# Altium footprint library 2020-04-06_20-05-45.PcbLib: 1 footprints
Each footprint in its own frame and in the unit in brackets; x right, y up, seen from the top. Pads: shape width x height; smd on the part's side, far side on the other; paste and mask are expansions set on the pad; w line width, h text height; cw(c..) or ccw(c..) is an arc to the next point about the centre after c.
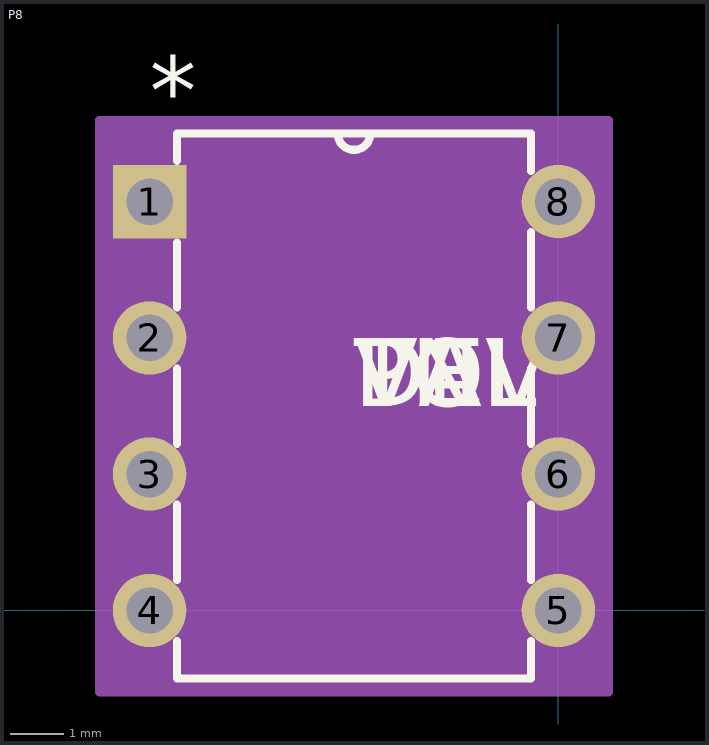
[diagram p0: the footprint, top view; thin cyan lines are the x and y axes]

## P8 [mil]
pads (8):
  rect 54x54 / inner round 60 / far side rect 54x54 hole 34: 1(-300,300)
  round 54 / inner round 60 / far side round 54 hole 34: 2(-300,200) 3(-300,100) 4(-300,0) 5(0,0) 6(0,100) 7(0,200) 8(0,300)
Top Overlay:
  lines w6: -280,-22.36 -280,-50 -20,-50 -20,-22.36 ; -280,22.36 -280,77.64 ; -280,122.36 -280,177.64 ; -280,222.36 -280,270 ; -280,330 -280,350 -20,350 -20,322.36 ; -162,350 ccw(c-150,350) -138,350 ; -20,22.36 -20,77.64 ; -20,122.36 -20,177.64 ; -20,222.36 -20,277.64
  text "*" at -300,357 h50
  text "PN" at -150,150 h50
  text "DEV" at -150,150 h50
  text "VAL" at -150,150 h50
  text "TOL" at -150,150 h50
Mechanical 13:
  lines w0: -162,350 ccw(c-150,350) -138,350
  text "*" at -300,357 h50
  text "RefDes2" at -150,150 h50
Mechanical 15:
  region: 37,-60 -337,-60 -337,360 37,360
  lines w6: -337,-60 37,-60 37,360 -337,360 -337,-60
3D body "P8.stp": height 300.1, standoff 0, extent -315,-50 5,350